# Altium footprint library PcbLib.PcbLib: 145 footprints (part 3 of 10)
Each footprint in its own frame and in the unit in brackets; x right, y up, seen from the top. Pads: shape width x height; smd on the part's side, far side on the other; paste and mask are expansions set on the pad; w line width, h text height; cw(c..) or ccw(c..) is an arc to the next point about the centre after c.
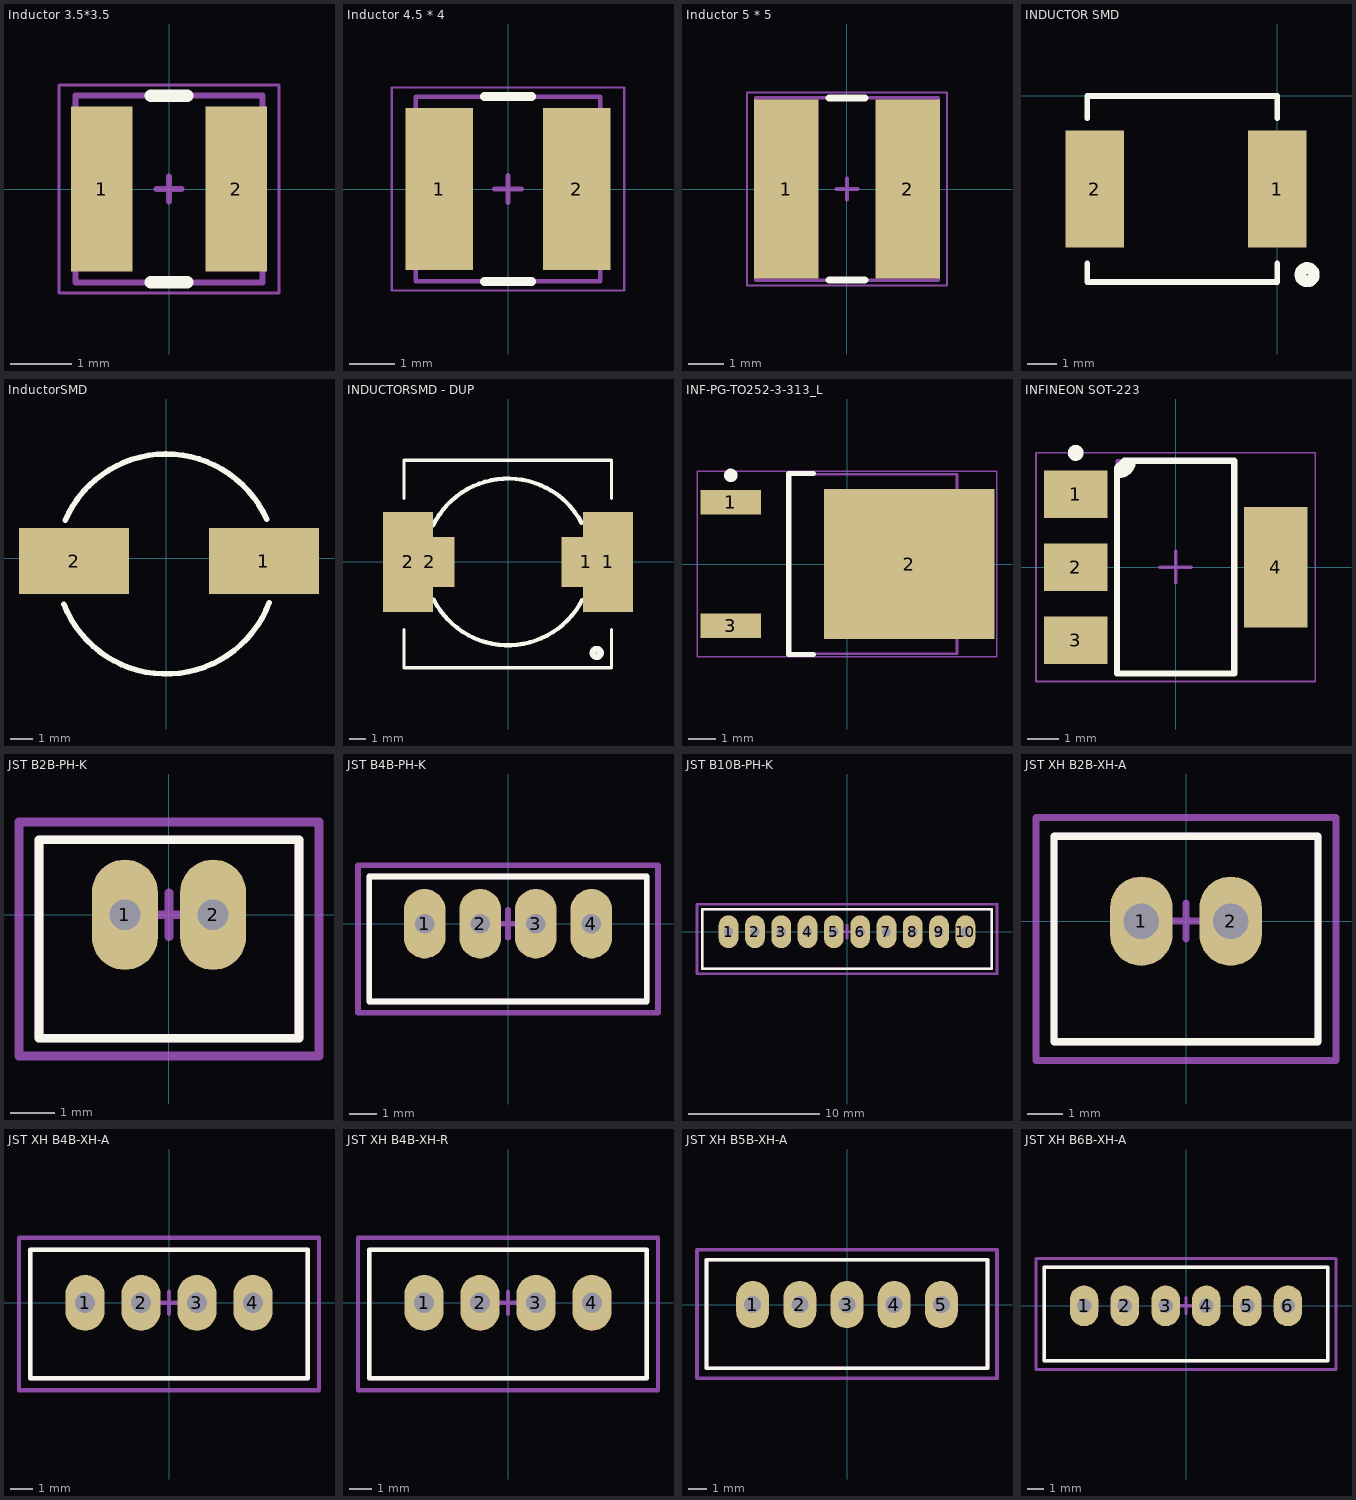
[diagram p2: the footprints below, top view; thin cyan lines are the x and y axes]

## Inductor 3.5*3.5 [mm] "Power Inductors, 2 Leads, Bourns, SRN3015-2R2M"
height 1.5
pads (2):
  rect 1x2.7 smd: 1(-1.1,0) 2(1.1,0)
Top Overlay:
  lines w0.2: -0.3,-1.525 0.3,-1.525 ; -0.3,1.525 0.3,1.525
Mechanical 13:
  lines w0.1: -1.525,-1.525 1.525,-1.525 1.525,1.525 -1.525,1.525 -1.525,-1.525
Mechanical 15:
  lines w0.05: -1.8,-1.7 -1.8,1.7 1.8,1.7 1.8,-1.7 -1.8,-1.7
  lines w0.1: -0.2,0 0.2,0 ; 0,-0.2 0,0.2
3D body "Bourns - SRN3015.step": height 1.5, standoff 0, extent -1.525,-1.525 1.525,1.525

## Inductor 4.5 * 4 [mm] "Power Inductor, 2-Leads, Bourns, SRN4018-220M"
height 1.8
pads (2):
  rect 1.5x3.6 smd: 1(-1.525,0) 2(1.525,0)
Top Overlay:
  lines w0.2: -0.525,-2.05 0.525,-2.05 ; -0.525,2.05 0.525,2.05
Mechanical 13:
  lines w0.1: -2.05,-2.05 2.05,-2.05 2.05,2.05 -2.05,2.05 -2.05,-2.05
Mechanical 15:
  lines w0.05: -2.575,-2.25 2.575,-2.25 2.575,2.25 -2.575,2.25 -2.575,-2.25
  lines w0.1: -0.3,0 0.3,0 ; 0,-0.3 0,0.3
3D body "Bourns - SRN4018.step": height 1.8, standoff 0, extent -2.05,-2.05 2.05,2.05

## Inductor 5 * 5 [mm] "Power Inductor, 2-Leads,Laird, TYS50402R2N-10"
height 4.2
pads (2):
  rect 1.8x5 smd: 1(-1.7,0) 2(1.7,0)
Top Overlay:
  lines w0.2: -0.5,-2.55 0.5,-2.55 ; -0.5,2.55 0.5,2.55
Mechanical 13:
  lines w0.1: -2.55,-2.55 2.55,-2.55 2.55,2.55 -2.55,2.55 -2.55,-2.55
Mechanical 15:
  lines w0.05: -2.8,-2.7 2.8,-2.7 2.8,2.7 -2.8,2.7 -2.8,-2.7
  lines w0.1: -0.3,0 0.3,0 ; 0,-0.3 0,0.3
3D body "Laird - TYS5040.step": height 4.2, standoff 0, extent -2.55,-2.55 2.55,2.55

## INDUCTOR SMD [mm]
pads (2):
  rect 2x4 smd: 1(0,-3.175) 2(-6.223,-3.175)
Top Overlay:
  circle w0.4: c1.016,-6.096 r0.227
  lines w0.2: -6.477,-5.715 -6.477,-6.35 0,-6.35 0,-5.715 ; -6.477,-0.762 -6.477,0 0,0 0,-0.762

## InductorSMD [mm]
pads (2):
  rect 5x3 smd: 1(4.445,-0.127) 2(-4.191,-0.127)
Top Overlay:
  lines w0.254: -4.651,-2.09 ccw(c0,-0.254) 4.676,-2.023 ; -4.589,1.731 cw(c0,-0.254) 4.569,1.777

## INDUCTORSMD - DUP [mm]
pads (4):
  rect 3x3 smd: 1(4.7,0) 2(-4.7,0)
  rect 3x6 smd: 1(6,0) 2(-6,0)
Top Overlay:
  circle w0.4: c5.321,-5.461 r0.227
  lines w0.2: -6.236,-4.064 -6.236,-6.35 6.21,-6.35 6.21,-4.064 ; -6.236,3.81 -6.236,6.096 6.21,6.096 6.21,3.81
  lines w0.254: -4.492,2.195 cw(c0,0) 4.417,2.344 ; -4.457,-2.267 ccw(c0,0) 4.449,-2.282

## INF-PG-TO252-3-313_L [mm] "DPAK, 3-Leads, Body 6.5x6.12mm, Pitch 2.28mm, IPC High Density"
height 2.35
pads (3):
  rect 2.25x0.9 smd: 1(-4.3,2.28) 3(-4.3,-2.28)
  rect 6.3x5.55 smd: 2(2.3,0)
Top Overlay:
  circle w0.25: c-4.3,3.28 r0.125
  lines w0.2: -1.25,-3.35 -2.15,-3.35 -2.15,3.35 -1.25,3.35
Mechanical 13:
  lines w0.1: -2.15,-3.325 4.07,-3.325 4.07,3.325 -2.15,3.325 -2.15,-3.325
Mechanical 15:
  lines w0.05: -5.55,-3.425 5.55,-3.425 5.55,3.425 -5.55,3.425 -5.55,-3.425
  lines w0.1: -0.5,0 0.5,0 ; 0,-0.5 0,0.5
3D body: height 2.35, standoff 0, extent -2.15,-3.325 4.07,3.325

## INFINEON SOT-223 [mm] "SOT223, 4-Leads, Body 6.50x7.00mm (avg), Pitch 2.30mm, IPC Medium Density"
height 1.8
pads (4):
  rect 2x1.5 smd: 1(-3.15,2.3) 2(-3.15,0) 3(-3.15,-2.3)
  rect 2x3.8 smd: 4(3.15,0)
Top Overlay:
  circle w0.25: c-3.15,3.6 r0.125
  region: -1.65,3.275 -1.35,3.35 -1.35,3.2 -1.65,2.9 -1.85,2.9
  lines w0.2: -1.85,2.9 -1.8,2.9 ccw(c-1.8,3.35) -1.35,3.35 ; -1.85,-3.35 -1.85,3.125 -1.625,3.35 1.85,3.35 1.85,-3.35 -1.85,-3.35
Mechanical 13:
  lines w0.1: -1.85,-3.35 1.85,-3.35 1.85,3.35 -1.85,3.35 -1.85,-3.35
Mechanical 15:
  lines w0.05: -4.4,-3.6 4.4,-3.6 4.4,3.6 -4.4,3.6 -4.4,-3.6
  lines w0.1: -0.5,0 0.5,0 ; 0,-0.5 0,0.5
3D body "SOT-223.STEP": height 1.8, standoff 0, extent -3.516,-3.25 3.5,3.25

## JST B2B-PH-K [mm]
height 6
pads (2):
  oval 1.5x2.5 hole 0.7: 1(-1,0) 2(1,0)
Top Overlay:
  lines w0.2: -2.95,-2.8 2.95,-2.8 2.95,1.7 -2.95,1.7 -2.95,-2.8
Bottom Overlay:
  circle w0.254: c-2.1,1.1 r0.141
Mechanical 13:
  lines w0.2: -2.95,-2.8 -2.95,1.7 2.95,1.7 2.95,-2.8 -2.95,-2.8
Mechanical 15:
  lines w0.2: -0.5,0 0.5,0 ; 0,-0.5 0,0.5 ; -3.4,-3.2 -3.4,2.1 3.4,2.1 3.4,-3.2 -3.4,-3.2
3D body "JST B2B-PH-K-S.STEP": height 6, standoff -3.4, extent -2.95,-2.8 2.95,1.7

## JST B4B-PH-K [mm]
height 6
pads (4):
  oval 1.5x2.5 hole 0.7: 1(-3,0) 2(-1,0) 3(1,0) 4(3,0)
Top Overlay:
  lines w0.2: -5,-2.8 5,-2.8 5,1.7 -5,1.7 -5,-2.8
Bottom Overlay:
  circle w0.254: c-4.1,1.1 r0.141
Mechanical 13:
  lines w0.2: -5,-2.8 -5,1.7 5,1.7 5,-2.8 -5,-2.8
Mechanical 15:
  lines w0.2: -0.5,0 0.5,0 ; 0,-0.5 0,0.5 ; -5.4,-3.2 -5.4,2.1 5.4,2.1 5.4,-3.2 -5.4,-3.2
3D body "JST B4B-PH-K-S.STEP": height 6, standoff -3.4, extent -4.95,-2.8 4.95,1.7

## JST B10B-PH-K [mm]
height 6
pads (10):
  oval 1.5x2.5 hole 0.7: 1(-9,0) 2(-7,0) 3(-5,0) 4(-3,0) 5(-1,0) 6(1,0) 7(3,0) 8(5,0) 9(7,0) 10(9,0)
Top Overlay:
  lines w0.2: -11,-2.8 11,-2.8 11,1.7 -11,1.7 -11,-2.8
Bottom Overlay:
  circle w0.254: c-10.1,1.1 r0.141
Mechanical 13:
  lines w0.2: 10.95,-2.8 -11,-2.8 -11,1.7 11,1.7 11,-2.8
Mechanical 15:
  lines w0.2: -0.5,0 0.5,0 ; 0,-0.5 0,0.5 ; -11.4,-3.2 -11.4,2.1 11.4,2.1 11.4,-3.2 -11.4,-3.2
3D body "JST B10B-PH-K-S.STEP": height 6, standoff -3.4, extent -10.95,-2.8 10.95,1.7

## JST XH B2B-XH-A [mm]
height 7
pads (2):
  oval 1.75x2.5 hole 1: 1(-1.25,0) 2(1.25,0)
Top Overlay:
  lines w0.2: -3.7,-3.375 3.7,-3.375 3.7,2.375 -3.7,2.375 -3.7,-3.375
Mechanical 1:
  lines w0.2: -3.7,-3.375 -3.7,2.375 3.7,2.375 3.7,-3.375 -3.7,-3.375
Mechanical 15:
  lines w0.2: -0.5,0 0.5,0 ; 0,-0.5 0,0.5 ; -4.2,-3.9 4.2,-3.9 4.2,2.9 -4.2,2.9 -4.2,-3.9
3D body "JST B2B-XH-A.STEP": height 7, standoff -3.4, extent -3.7,-3.375 3.7,2.375

## JST XH B4B-XH-A [mm]
height 7
pads (4):
  oval 1.75x2.5 hole 0.9: 1(-3.75,0) 2(-1.25,0) 3(1.25,0) 4(3.75,0)
Top Overlay:
  lines w0.2: -6.2,-3.375 6.2,-3.375 6.2,2.375 -6.2,2.375 -6.2,-3.375
Mechanical 1:
  lines w0.2: -6.2,-3.375 -6.2,2.375 6.2,2.375 6.2,-3.375 -6.2,-3.375
Mechanical 15:
  lines w0.2: -0.5,0 0.5,0 ; 0,-0.5 0,0.5 ; -6.7,-3.9 6.7,-3.9 6.7,2.9 -6.7,2.9 -6.7,-3.9
3D body "JST B4B-XH-A.STEP": height 7, standoff -3.4, extent -6.2,-3.375 6.2,2.375

## JST XH B4B-XH-R [mm]
height 7
pads (4):
  oval 1.75x2.5 hole 0.9: 1(-3.75,0) 2(-1.25,0) 3(1.25,0) 4(3.75,0)
Top Overlay:
  lines w0.2: -6.2,-3.375 6.2,-3.375 6.2,2.375 -6.2,2.375 -6.2,-3.375
Mechanical 1:
  lines w0.2: -6.2,-3.375 -6.2,2.375 6.2,2.375 6.2,-3.375 -6.2,-3.375
Mechanical 15:
  lines w0.2: -0.5,0 0.5,0 ; 0,-0.5 0,0.5 ; -6.7,-3.9 6.7,-3.9 6.7,2.9 -6.7,2.9 -6.7,-3.9
3D body "S4B-XH-A(LF)(SN)--3DModel-STEP-56544.STEP": height 6.15, standoff -3.4, extent -6.2,-2.321 6.2,9.179

## JST XH B5B-XH-A [mm]
height 7
pads (5):
  oval 1.75x2.5 hole 0.9: 1(-5,0) 2(-2.5,0) 3(0,0) 4(2.5,0) 5(5,0)
Top Overlay:
  lines w0.2: -7.45,-3.375 7.45,-3.375 7.45,2.375 -7.45,2.375 -7.45,-3.375
Mechanical 1:
  lines w0.2: -7.45,-3.375 -7.45,2.375 7.45,2.375 7.45,-3.375 -7.45,-3.375
Mechanical 15:
  lines w0.2: -0.5,0 0.5,0 ; 0,-0.5 0,0.5 ; -7.95,-3.9 7.95,-3.9 7.95,2.9 -7.95,2.9 -7.95,-3.9
3D body "JST B5B-XH-A.STEP": height 7, standoff -3.4, extent -7.45,-3.375 7.45,2.375

## JST XH B6B-XH-A [mm]
height 7
pads (6):
  oval 1.75x2.5 hole 0.9: 1(-6.25,0) 2(-3.75,0) 3(-1.25,0) 4(1.25,0) 5(3.75,0) 6(6.25,0)
Top Overlay:
  lines w0.2: -8.7,-3.375 8.7,-3.375 8.7,2.375 -8.7,2.375 -8.7,-3.375
Mechanical 1:
  lines w0.2: -8.7,-3.375 -8.7,2.375 8.7,2.375 8.7,-3.375 -8.7,-3.375
Mechanical 15:
  lines w0.2: -0.5,0 0.5,0 ; 0,-0.5 0,0.5 ; -9.2,-3.9 9.2,-3.9 9.2,2.9 -9.2,2.9 -9.2,-3.9
3D body "JST B6B-XH-A.STEP": height 7, standoff -3.4, extent -8.7,-3.375 8.7,2.375